# Altium schematic symbol library SCH - POWER - SUPPLY - LM5007.SCHLIB: 1 symbol
Pins are listed as number, name and electrical type; pins without a type are passive.

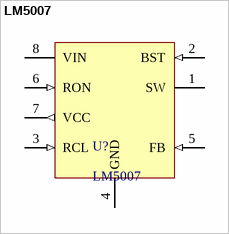
[diagram p0: symbol LM5007]

## LM5007
designator U?
Buck Converter, 9-75Vin, 2.5-73Vout
pins: 1 SW (power), 2 BST (in), 3 RCL (in), 4 GND (power), 5 FB (in), 6 RON (in), 7 VCC (out), 8 VIN (power)